# EAGLE library part ADUM5028 (library novaXR)
The ADuM5020 and ADuM50281 are isoPower®, integrated, isolated dc-to-dc converters. Based on the Analog Devices, Inc., iCoupler® technology, these dc-to-dc converters provide regulated, isolated power that is below CISPR22 Class B limits at full load on a 2-layer printed circuit board (PCB) with ferrites
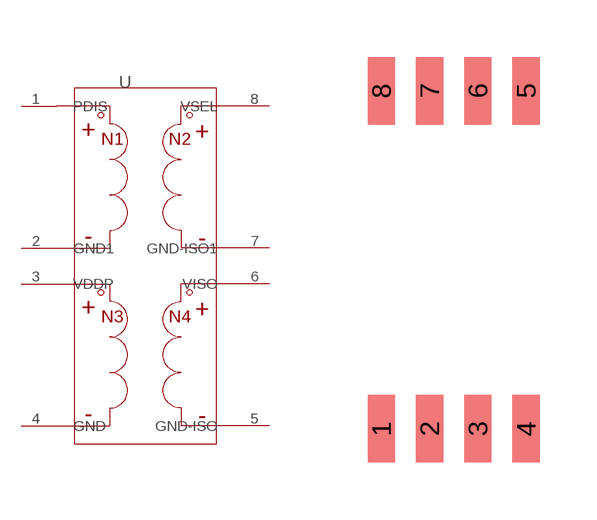
[diagram p1: symbol with the pads of SOIC_IC; footprint SOIC_IC]

Designator prefix -

## ADUM5028  [SOIC_IC]
1  PDIS
2  GND1
3  VDDP
4  GND
5  GND-ISO
6  VISO
7  GND-ISO1
8  VSEL

## Footprint SOIC_IC (pad centres in mm)
8 Lead SOIC_IC Data Sheet No. ADuM5020-5028 Source:https://www.analog.com/media/en/technical-documentation/data-sheets/ADuM5020-5028.pdf
smd 0.72 x 1.78: 1 -2.159,-2.858; 2 -0.889,-2.858; 3 0.381,-2.858; 4 1.651,-2.858; 5 1.651,6.042; 6 0.381,6.042; 7 -0.889,6.042; 8 -2.159,6.042